# Altium schematic symbol library TL1963ADCQ.Schlib: 1 symbol
Pins are listed as number, name and electrical type; pins without a type are passive.

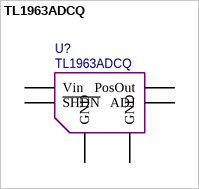
[diagram p0: symbol TL1963ADCQ]

## TL1963ADCQ
designator U?
pins: 1 ~{SHDN}, 2 Vin, 3 GND, 4 PosOut, 5 ADJ, 6 GND